# Altium schematic symbol library WE-VD.SchLib: 78 symbols (part 2 of 2)
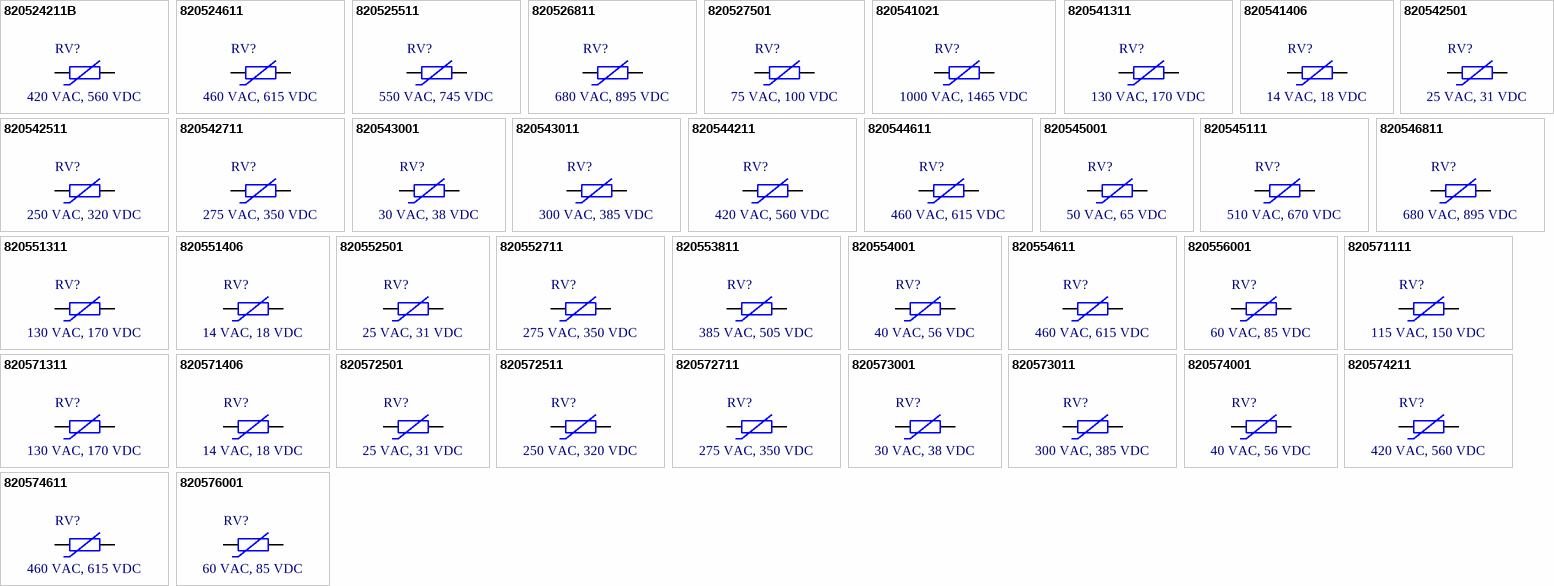
[diagram p2: symbols 820524211B to 820576001]

## 820544611
designator RV?, comment 460 VAC, 615 VDC
WE-VD Disk Varistor, D16.5 x H20.5 mm, 460 VAC, 615 VDC; Manufacturer Part Number: 820544611; Manufacturer: Wurth Elektronik; Channel Input Capacitance: 270 pF; Clamping Voltage: 1240 V; Energy Absorption: 180 J; Operating Voltage (AC): 460 V; Operating Voltage (DC): 615 V; Power Dissipation: 0.6 W; (Reverse) Breakdown Voltage: 750 V; (Reverse) Peak Pulse Current: 4500 A; Category: Surge Protection; Match Code: WE-VD; ComponentLink1Description: Website Link; ComponentLink1URL: https://www.we-online.com/redexpert/article/820544611?ad; ComponentLink2Description: Datasheet Link; ComponentLink2URL: https://www.we-online.com/redexpert/spec/820544611?ad; Mount: Through Hole; Min Operating Temperature: -40 °C; Max Operating Temperature: 105 °C; Packaging: Tape and Reel; Width: 8.6 mm; Height: 20.5 mm; Diameter: 16.5 mm
footprint D16.5W8.6H20.5P2.8
pins: 1, 2

## 820545001
designator RV?, comment 50 VAC, 65 VDC
WE-VD Disk Varistor, D16.5 x H19.5 mm, 50 VAC, 65 VDC; Manufacturer Part Number: 820545001; Manufacturer: Wurth Elektronik; Channel Input Capacitance: 2970 pF; Clamping Voltage: 135 V; Energy Absorption: 22 J; Operating Voltage (AC): 50 V; Operating Voltage (DC): 65 V; Power Dissipation: 0.6 W; (Reverse) Breakdown Voltage: 82 V; (Reverse) Peak Pulse Current: 1000 A; Category: Surge Protection; Match Code: WE-VD; ComponentLink1Description: Website Link; ComponentLink1URL: https://www.we-online.com/redexpert/article/820545001?ad; ComponentLink2Description: Datasheet Link; ComponentLink2URL: https://www.we-online.com/redexpert/spec/820545001?ad; Mount: Through Hole; Min Operating Temperature: -40 °C; Max Operating Temperature: 105 °C; Packaging: Tape and Reel; Width: 4.4 mm; Height: 19.5 mm; Diameter: 16.5 mm
footprint D16.5W4.4H19.5P0.8
pins: 1, 2

## 820545111
designator RV?, comment 510 VAC, 670 VDC
WE-VD Disk Varistor, D16.5 x H20.5 mm, 510 VAC, 670 VDC; Manufacturer Part Number: 820545111; Manufacturer: Wurth Elektronik; Channel Input Capacitance: 250 pF; Clamping Voltage: 1355 V; Energy Absorption: 188 J; Operating Voltage (AC): 510 V; Operating Voltage (DC): 670 V; Power Dissipation: 0.6 W; (Reverse) Breakdown Voltage: 820 V; (Reverse) Peak Pulse Current: 4500 A; Category: Surge Protection; Match Code: WE-VD; ComponentLink1Description: Website Link; ComponentLink1URL: https://www.we-online.com/redexpert/article/820545111?ad; ComponentLink2Description: Datasheet Link; ComponentLink2URL: https://www.we-online.com/redexpert/spec/820545111?ad; Mount: Through Hole; Min Operating Temperature: -40 °C; Max Operating Temperature: 105 °C; Packaging: Tape and Reel; Width: 9 mm; Height: 20.5 mm; Diameter: 16.5 mm
footprint D16.5W9H20.5P3.1
pins: 1, 2

## 820546811
designator RV?, comment 680 VAC, 895 VDC
WE-VD Disk Varistor, D16.5 x H20.5 mm, 680 VAC, 895 VDC; Manufacturer Part Number: 820546811; Manufacturer: Wurth Elektronik; Channel Input Capacitance: 180 pF; Clamping Voltage: 1815 V; Energy Absorption: 248 J; Operating Voltage (AC): 680 V; Operating Voltage (DC): 895 V; Power Dissipation: 0.6 W; (Reverse) Breakdown Voltage: 1100 V; (Reverse) Peak Pulse Current: 4500 A; Category: Surge Protection; Match Code: WE-VD; ComponentLink1Description: Website Link; ComponentLink1URL: https://www.we-online.com/redexpert/article/820546811?ad; ComponentLink2Description: Datasheet Link; ComponentLink2URL: https://www.we-online.com/redexpert/spec/820546811?ad; Mount: Through Hole; Min Operating Temperature: -40 °C; Max Operating Temperature: 105 °C; Packaging: Tape and Reel; Width: 10.7 mm; Height: 20.5 mm; Diameter: 16.5 mm
footprint D16.5W10.7H20.5P4.5
pins: 1, 2

## 820551311
designator RV?, comment 130 VAC, 170 VDC
WE-VD Disk Varistor, D7.5 x H10.5 mm, 130 VAC, 170 VDC; Manufacturer Part Number: 820551311; Manufacturer: Wurth Elektronik; Channel Input Capacitance: 135 pF; Clamping Voltage: 355 V; Energy Absorption: 7.1 J; Operating Voltage (AC): 130 V; Operating Voltage (DC): 170 V; Power Dissipation: 0.1 W; (Reverse) Breakdown Voltage: 200 V; (Reverse) Peak Pulse Current: 400 A; Category: Surge Protection; Match Code: WE-VD; ComponentLink1Description: Website Link; ComponentLink1URL: https://www.we-online.com/redexpert/article/820551311?ad; ComponentLink2Description: Datasheet Link; ComponentLink2URL: https://www.we-online.com/redexpert/spec/820551311?ad; Mount: Through Hole; Min Operating Temperature: -40 °C; Max Operating Temperature: 105 °C; Packaging: Tape and Reel; Width: 4.2 mm; Height: 10.5 mm; Diameter: 7.5 mm
footprint D7.5W4.2H10.5P0.8
pins: 1, 2

## 820551406
designator RV?, comment 14 VAC, 18 VDC
WE-VD Disk Varistor, D7.5 x H10.5 mm, 14 VAC, 18 VDC; Manufacturer Part Number: 820551406; Manufacturer: Wurth Elektronik; Channel Input Capacitance: 1130 pF; Clamping Voltage: 48 V; Energy Absorption: 0.7 J; Operating Voltage (AC): 14 V; Operating Voltage (DC): 18 V; Power Dissipation: 0.01 W; (Reverse) Breakdown Voltage: 22 V; (Reverse) Peak Pulse Current: 100 A; Category: Surge Protection; Match Code: WE-VD; ComponentLink1Description: Website Link; ComponentLink1URL: https://www.we-online.com/redexpert/article/820551406?ad; ComponentLink2Description: Datasheet Link; ComponentLink2URL: https://www.we-online.com/redexpert/spec/820551406?ad; Mount: Through Hole; Min Operating Temperature: -40 °C; Max Operating Temperature: 105 °C; Packaging: Tape and Reel; Width: 4.5 mm; Height: 10.5 mm; Diameter: 7.5 mm
footprint D7.5W4.5H10.5P0.8
pins: 1, 2

## 820552501
designator RV?, comment 25 VAC, 31 VDC
WE-VD Disk Varistor, D7.5 x H10.5 mm, 25 VAC, 31 VDC; Manufacturer Part Number: 820552501; Manufacturer: Wurth Elektronik; Channel Input Capacitance: 830 pF; Clamping Voltage: 86 V; Energy Absorption: 1.2 J; Operating Voltage (AC): 25 V; Operating Voltage (DC): 31 V; Power Dissipation: 0.01 W; (Reverse) Breakdown Voltage: 39 V; (Reverse) Peak Pulse Current: 100 A; Category: Surge Protection; Match Code: WE-VD; ComponentLink1Description: Website Link; ComponentLink1URL: https://www.we-online.com/redexpert/article/820552501?ad; ComponentLink2Description: Datasheet Link; ComponentLink2URL: https://www.we-online.com/redexpert/spec/820552501?ad; Mount: Through Hole; Min Operating Temperature: -40 °C; Max Operating Temperature: 105 °C; Packaging: Tape and Reel; Width: 4.7 mm; Height: 10.5 mm; Diameter: 7.5 mm
footprint D7.5W4.7H10.5P0.8
pins: 1, 2

## 820552711
designator RV?, comment 275 VAC, 350 VDC
WE-VD Disk Varistor, D7.5 x H11 mm, 275 VAC, 350 VDC; Manufacturer Part Number: 820552711; Manufacturer: Wurth Elektronik; Channel Input Capacitance: 65 pF; Clamping Voltage: 745 V; Energy Absorption: 16.5 J; Operating Voltage (AC): 275 V; Operating Voltage (DC): 350 V; Power Dissipation: 0.1 W; (Reverse) Breakdown Voltage: 430 V; (Reverse) Peak Pulse Current: 400 A; Category: Surge Protection; Match Code: WE-VD; ComponentLink1Description: Website Link; ComponentLink1URL: https://www.we-online.com/redexpert/article/820552711?ad; ComponentLink2Description: Datasheet Link; ComponentLink2URL: https://www.we-online.com/redexpert/spec/820552711?ad; Mount: Through Hole; Min Operating Temperature: -40 °C; Max Operating Temperature: 105 °C; Packaging: Tape and Reel; Width: 6.1 mm; Height: 11 mm; Diameter: 7.5 mm
footprint D7.5W6.1H11P1.5
pins: 1, 2

## 820553811
designator RV?, comment 385 VAC, 505 VDC
WE-VD Disk Varistor, D7.5 x H11.5 mm, 385 VAC, 505 VDC; Manufacturer Part Number: 820553811; Manufacturer: Wurth Elektronik; Channel Input Capacitance: 45 pF; Clamping Voltage: 1050 V; Energy Absorption: 20.5 J; Operating Voltage (AC): 385 V; Operating Voltage (DC): 505 V; Power Dissipation: 0.1 W; (Reverse) Breakdown Voltage: 620 V; (Reverse) Peak Pulse Current: 400 A; Category: Surge Protection; Match Code: WE-VD; ComponentLink1Description: Website Link; ComponentLink1URL: https://www.we-online.com/redexpert/article/820553811?ad; ComponentLink2Description: Datasheet Link; ComponentLink2URL: https://www.we-online.com/redexpert/spec/820553811?ad; Mount: Through Hole; Min Operating Temperature: -40 °C; Max Operating Temperature: 105 °C; Packaging: Tape and Reel; Width: 7.2 mm; Height: 11.5 mm; Diameter: 7.5 mm
footprint D7.5W7.2H11.5P2.4
pins: 1, 2

## 820554001
designator RV?, comment 40 VAC, 56 VDC
WE-VD Disk Varistor, D7.5 x H10.5 mm, 40 VAC, 56 VDC; Manufacturer Part Number: 820554001; Manufacturer: Wurth Elektronik; Channel Input Capacitance: 500 pF; Clamping Voltage: 150 V; Energy Absorption: 2.1 J; Operating Voltage (AC): 40 V; Operating Voltage (DC): 56 V; Power Dissipation: 0.01 W; (Reverse) Breakdown Voltage: 68 V; (Reverse) Peak Pulse Current: 100 A; Category: Surge Protection; Match Code: WE-VD; ComponentLink1Description: Website Link; ComponentLink1URL: https://www.we-online.com/redexpert/article/820554001?ad; ComponentLink2Description: Datasheet Link; ComponentLink2URL: https://www.we-online.com/redexpert/spec/820554001?ad; Mount: Through Hole; Min Operating Temperature: -40 °C; Max Operating Temperature: 105 °C; Packaging: Tape and Reel; Width: 5.5 mm; Height: 10.5 mm; Diameter: 7.5 mm
footprint D7.5W5.5H10.5P1.5
pins: 1, 2

## 820554611
designator RV?, comment 460 VAC, 615 VDC
WE-VD Disk Varistor, D7.5 x H11.5 mm, 460 VAC, 615 VDC; Manufacturer Part Number: 820554611; Manufacturer: Wurth Elektronik; Channel Input Capacitance: 35 pF; Clamping Voltage: 1290 V; Energy Absorption: 22.5 J; Operating Voltage (AC): 460 V; Operating Voltage (DC): 615 V; Power Dissipation: 0.1 W; (Reverse) Breakdown Voltage: 750 V; (Reverse) Peak Pulse Current: 400 A; Category: Surge Protection; Match Code: WE-VD; ComponentLink1Description: Website Link; ComponentLink1URL: https://www.we-online.com/redexpert/article/820554611?ad; ComponentLink2Description: Datasheet Link; ComponentLink2URL: https://www.we-online.com/redexpert/spec/820554611?ad; Mount: Through Hole; Min Operating Temperature: -40 °C; Max Operating Temperature: 105 °C; Packaging: Tape and Reel; Width: 7.9 mm; Height: 11.5 mm; Diameter: 7.5 mm
footprint D7.5W7.9H11.5P3
pins: 1, 2

## 820556001
designator RV?, comment 60 VAC, 85 VDC
WE-VD Disk Varistor, D7.5 x H10.5 mm, 60 VAC, 85 VDC; Manufacturer Part Number: 820556001; Manufacturer: Wurth Elektronik; Channel Input Capacitance: 260 pF; Clamping Voltage: 175 V; Energy Absorption: 3.5 J; Operating Voltage (AC): 60 V; Operating Voltage (DC): 85 V; Power Dissipation: 0.1 W; (Reverse) Breakdown Voltage: 100 V; (Reverse) Peak Pulse Current: 400 A; Category: Surge Protection; Match Code: WE-VD; ComponentLink1Description: Website Link; ComponentLink1URL: https://www.we-online.com/redexpert/article/820556001?ad; ComponentLink2Description: Datasheet Link; ComponentLink2URL: https://www.we-online.com/redexpert/spec/820556001?ad; Mount: Through Hole; Min Operating Temperature: -40 °C; Max Operating Temperature: 105 °C; Packaging: Tape and Reel; Width: 3.9 mm; Height: 10.5 mm; Diameter: 7.5 mm
footprint D7.5W3.9H10.5P0.8
pins: 1, 2

## 820571111
designator RV?, comment 115 VAC, 150 VDC
WE-VD Disk Varistor, D9 x H12 mm, 115 VAC, 150 VDC; Manufacturer Part Number: 820571111; Manufacturer: Wurth Elektronik; Channel Input Capacitance: 220 pF; Clamping Voltage: 300 V; Energy Absorption: 13 J; Operating Voltage (AC): 115 V; Operating Voltage (DC): 150 V; Power Dissipation: 0.25 W; (Reverse) Breakdown Voltage: 180 V; (Reverse) Peak Pulse Current: 1200 A; Category: Surge Protection; Match Code: WE-VD; ComponentLink1Description: Website Link; ComponentLink1URL: https://www.we-online.com/redexpert/article/820571111?ad; ComponentLink2Description: Datasheet Link; ComponentLink2URL: https://www.we-online.com/redexpert/spec/820571111?ad; Mount: Through Hole; Min Operating Temperature: -40 °C; Max Operating Temperature: 105 °C; Packaging: Tape and Reel; Width: 4.1 mm; Height: 12 mm; Diameter: 9 mm
footprint D9W4.1H12P0.8
pins: 1, 2

## 820571311
designator RV?, comment 130 VAC, 170 VDC
WE-VD Disk Varistor, D9 x H12 mm, 130 VAC, 170 VDC; Manufacturer Part Number: 820571311; Manufacturer: Wurth Elektronik; Channel Input Capacitance: 210 pF; Clamping Voltage: 340 V; Energy Absorption: 14.3 J; Operating Voltage (AC): 130 V; Operating Voltage (DC): 170 V; Power Dissipation: 0.25 W; (Reverse) Breakdown Voltage: 200 V; (Reverse) Peak Pulse Current: 1200 A; Category: Surge Protection; Match Code: WE-VD; ComponentLink1Description: Website Link; ComponentLink1URL: https://www.we-online.com/redexpert/article/820571311?ad; ComponentLink2Description: Datasheet Link; ComponentLink2URL: https://www.we-online.com/redexpert/spec/820571311?ad; Mount: Through Hole; Min Operating Temperature: -40 °C; Max Operating Temperature: 105 °C; Packaging: Tape and Reel; Width: 4.2 mm; Height: 12 mm; Diameter: 9 mm
footprint D9W4.2H12P0.8
pins: 1, 2

## 820571406
designator RV?, comment 14 VAC, 18 VDC
WE-VD Disk Varistor, D9 x H12 mm, 14 VAC, 18 VDC; Manufacturer Part Number: 820571406; Manufacturer: Wurth Elektronik; Channel Input Capacitance: 2930 pF; Clamping Voltage: 43 V; Energy Absorption: 1.4 J; Operating Voltage (AC): 14 V; Operating Voltage (DC): 18 V; Power Dissipation: 0.02 W; (Reverse) Breakdown Voltage: 22 V; (Reverse) Peak Pulse Current: 250 A; Category: Surge Protection; Match Code: WE-VD; ComponentLink1Description: Website Link; ComponentLink1URL: https://www.we-online.com/redexpert/article/820571406?ad; ComponentLink2Description: Datasheet Link; ComponentLink2URL: https://www.we-online.com/redexpert/spec/820571406?ad; Mount: Through Hole; Min Operating Temperature: -40 °C; Max Operating Temperature: 105 °C; Packaging: Tape and Reel; Width: 4.5 mm; Height: 12 mm; Diameter: 9 mm
footprint D9W4.5H12P0.8
pins: 1, 2

## 820572501
designator RV?, comment 25 VAC, 31 VDC
WE-VD Disk Varistor, D9 x H12 mm, 25 VAC, 31 VDC; Manufacturer Part Number: 820572501; Manufacturer: Wurth Elektronik; Channel Input Capacitance: 1820 pF; Clamping Voltage: 77 V; Energy Absorption: 2.4 J; Operating Voltage (AC): 25 V; Operating Voltage (DC): 31 V; Power Dissipation: 0.02 W; (Reverse) Breakdown Voltage: 39 V; (Reverse) Peak Pulse Current: 250 A; Category: Surge Protection; Match Code: WE-VD; ComponentLink1Description: Website Link; ComponentLink1URL: https://www.we-online.com/redexpert/article/820572501?ad; ComponentLink2Description: Datasheet Link; ComponentLink2URL: https://www.we-online.com/redexpert/spec/820572501?ad; Mount: Through Hole; Min Operating Temperature: -40 °C; Max Operating Temperature: 105 °C; Packaging: Tape and Reel; Width: 4.7 mm; Height: 12 mm; Diameter: 9 mm
footprint D9W4.7H12P0.8
pins: 1, 2

## 820572511
designator RV?, comment 250 VAC, 320 VDC
WE-VD Disk Varistor, D9 x H12.5 mm, 250 VAC, 320 VDC; Manufacturer Part Number: 820572511; Manufacturer: Wurth Elektronik; Channel Input Capacitance: 110 pF; Clamping Voltage: 650 V; Energy Absorption: 30 J; Operating Voltage (AC): 250 V; Operating Voltage (DC): 320 V; Power Dissipation: 0.25 W; (Reverse) Breakdown Voltage: 390 V; (Reverse) Peak Pulse Current: 1200 A; Category: Surge Protection; Match Code: WE-VD; ComponentLink1Description: Website Link; ComponentLink1URL: https://www.we-online.com/redexpert/article/820572511?ad; ComponentLink2Description: Datasheet Link; ComponentLink2URL: https://www.we-online.com/redexpert/spec/820572511?ad; Mount: Through Hole; Min Operating Temperature: -40 °C; Max Operating Temperature: 105 °C; Packaging: Tape and Reel; Width: 5.3 mm; Height: 12.5 mm; Diameter: 9 mm
footprint D9W5.3H12.5P1.3
pins: 1, 2

## 820572711
designator RV?, comment 275 VAC, 350 VDC
WE-VD Disk Varistor, D9 x H12.5 mm, 275 VAC, 350 VDC; Manufacturer Part Number: 820572711; Manufacturer: Wurth Elektronik; Channel Input Capacitance: 105 pF; Clamping Voltage: 710 V; Energy Absorption: 33 J; Operating Voltage (AC): 275 V; Operating Voltage (DC): 350 V; Power Dissipation: 0.25 W; (Reverse) Breakdown Voltage: 430 V; (Reverse) Peak Pulse Current: 1200 A; Category: Surge Protection; Match Code: WE-VD; ComponentLink1Description: Website Link; ComponentLink1URL: https://www.we-online.com/redexpert/article/820572711?ad; ComponentLink2Description: Datasheet Link; ComponentLink2URL: https://www.we-online.com/redexpert/spec/820572711?ad; Mount: Through Hole; Min Operating Temperature: -40 °C; Max Operating Temperature: 105 °C; Packaging: Tape and Reel; Width: 6.1 mm; Height: 12.5 mm; Diameter: 9 mm
footprint D9W6.1H12.5P1.5
pins: 1, 2

## 820573001
designator RV?, comment 30 VAC, 38 VDC
WE-VD Disk Varistor, D9 x H12 mm, 30 VAC, 38 VDC; Manufacturer Part Number: 820573001; Manufacturer: Wurth Elektronik; Channel Input Capacitance: 1600 pF; Clamping Voltage: 93 V; Energy Absorption: 3 J; Operating Voltage (AC): 30 V; Operating Voltage (DC): 38 V; Power Dissipation: 0.02 W; (Reverse) Breakdown Voltage: 47 V; (Reverse) Peak Pulse Current: 250 A; Category: Surge Protection; Match Code: WE-VD; ComponentLink1Description: Website Link; ComponentLink1URL: https://www.we-online.com/redexpert/article/820573001?ad; ComponentLink2Description: Datasheet Link; ComponentLink2URL: https://www.we-online.com/redexpert/spec/820573001?ad; Mount: Through Hole; Min Operating Temperature: -40 °C; Max Operating Temperature: 105 °C; Packaging: Tape and Reel; Width: 5 mm; Height: 12 mm; Diameter: 9 mm
footprint D9W5H12P0.8
pins: 1, 2

## 820573011
designator RV?, comment 300 VAC, 385 VDC
WE-VD Disk Varistor, D9 x H12.5 mm, 300 VAC, 385 VDC; Manufacturer Part Number: 820573011; Manufacturer: Wurth Elektronik; Channel Input Capacitance: 100 pF; Clamping Voltage: 775 V; Energy Absorption: 35 J; Operating Voltage (AC): 300 V; Operating Voltage (DC): 385 V; Power Dissipation: 0.25 W; (Reverse) Breakdown Voltage: 470 V; (Reverse) Peak Pulse Current: 1200 A; Category: Surge Protection; Match Code: WE-VD; ComponentLink1Description: Website Link; ComponentLink1URL: https://www.we-online.com/redexpert/article/820573011?ad; ComponentLink2Description: Datasheet Link; ComponentLink2URL: https://www.we-online.com/redexpert/spec/820573011?ad; Mount: Through Hole; Min Operating Temperature: -40 °C; Max Operating Temperature: 105 °C; Packaging: Tape and Reel; Width: 6.4 mm; Height: 12.5 mm; Diameter: 9 mm
footprint D9W6.4H12.5P1.7
pins: 1, 2

## 820574001
designator RV?, comment 40 VAC, 56 VDC
WE-VD Disk Varistor, D9 x H12 mm, 40 VAC, 56 VDC; Manufacturer Part Number: 820574001; Manufacturer: Wurth Elektronik; Channel Input Capacitance: 1120 pF; Clamping Voltage: 135 V; Energy Absorption: 4.3 J; Operating Voltage (AC): 40 V; Operating Voltage (DC): 56 V; Power Dissipation: 0.02 W; (Reverse) Breakdown Voltage: 68 V; (Reverse) Peak Pulse Current: 250 A; Category: Surge Protection; Match Code: WE-VD; ComponentLink1Description: Website Link; ComponentLink1URL: https://www.we-online.com/redexpert/article/820574001?ad; ComponentLink2Description: Datasheet Link; ComponentLink2URL: https://www.we-online.com/redexpert/spec/820574001?ad; Mount: Through Hole; Min Operating Temperature: -40 °C; Max Operating Temperature: 105 °C; Packaging: Tape and Reel; Width: 5.5 mm; Height: 12 mm; Diameter: 9 mm
footprint D9W5.5H12P1.5
pins: 1, 2

## 820574211
designator RV?, comment 420 VAC, 560 VDC
WE-VD Disk Varistor, D9 x H13 mm, 420 VAC, 560 VDC; Manufacturer Part Number: 820574211; Manufacturer: Wurth Elektronik; Channel Input Capacitance: 78 pF; Clamping Voltage: 1120 V; Energy Absorption: 43 J; Operating Voltage (AC): 420 V; Operating Voltage (DC): 560 V; Power Dissipation: 0.25 W; (Reverse) Breakdown Voltage: 680 V; (Reverse) Peak Pulse Current: 1200 A; Category: Surge Protection; Match Code: WE-VD; ComponentLink1Description: Website Link; ComponentLink1URL: https://www.we-online.com/redexpert/article/820574211?ad; ComponentLink2Description: Datasheet Link; ComponentLink2URL: https://www.we-online.com/redexpert/spec/820574211?ad; Mount: Through Hole; Min Operating Temperature: -40 °C; Max Operating Temperature: 105 °C; Packaging: Tape and Reel; Width: 7.5 mm; Height: 13 mm; Diameter: 9 mm
footprint D9W7.5H13P2.7
pins: 1, 2

## 820574611
designator RV?, comment 460 VAC, 615 VDC
WE-VD Disk Varistor, D9 x H13 mm, 460 VAC, 615 VDC; Manufacturer Part Number: 820574611; Manufacturer: Wurth Elektronik; Channel Input Capacitance: 75 pF; Clamping Voltage: 1240 V; Energy Absorption: 45 J; Operating Voltage (AC): 460 V; Operating Voltage (DC): 615 V; Power Dissipation: 0.25 W; (Reverse) Breakdown Voltage: 750 V; (Reverse) Peak Pulse Current: 1200 A; Category: Surge Protection; Match Code: WE-VD; ComponentLink1Description: Website Link; ComponentLink1URL: https://www.we-online.com/redexpert/article/820574611?ad; ComponentLink2Description: Datasheet Link; ComponentLink2URL: https://www.we-online.com/redexpert/spec/820574611?ad; Mount: Through Hole; Min Operating Temperature: -40 °C; Max Operating Temperature: 105 °C; Packaging: Tape and Reel; Width: 7.9 mm; Height: 13 mm; Diameter: 9 mm
footprint D9W7.9H13P3
pins: 1, 2

## 820576001
designator RV?, comment 60 VAC, 85 VDC
WE-VD Disk Varistor, D9 x H12 mm, 60 VAC, 85 VDC; Manufacturer Part Number: 820576001; Manufacturer: Wurth Elektronik; Channel Input Capacitance: 540 pF; Clamping Voltage: 165 V; Energy Absorption: 7 J; Operating Voltage (AC): 60 V; Operating Voltage (DC): 85 V; Power Dissipation: 0.25 W; (Reverse) Breakdown Voltage: 100 V; (Reverse) Peak Pulse Current: 1200 A; Category: Surge Protection; Match Code: WE-VD; ComponentLink1Description: Website Link; ComponentLink1URL: https://www.we-online.com/redexpert/article/820576001?ad; ComponentLink2Description: Datasheet Link; ComponentLink2URL: https://www.we-online.com/redexpert/spec/820576001?ad; Mount: Through Hole; Min Operating Temperature: -40 °C; Max Operating Temperature: 105 °C; Packaging: Tape and Reel; Width: 3.9 mm; Height: 12 mm; Diameter: 9 mm
footprint D9W3.9H12P0.8
pins: 1, 2